# Altium footprint library RJ12_Femelle_FCI.PcbLib: 1 footprints
Each footprint in its own frame and in the unit in brackets; x right, y up, seen from the top. Pads: shape width x height; smd on the part's side, far side on the other; paste and mask are expansions set on the pad; w line width, h text height; cw(c..) or ccw(c..) is an arc to the next point about the centre after c.
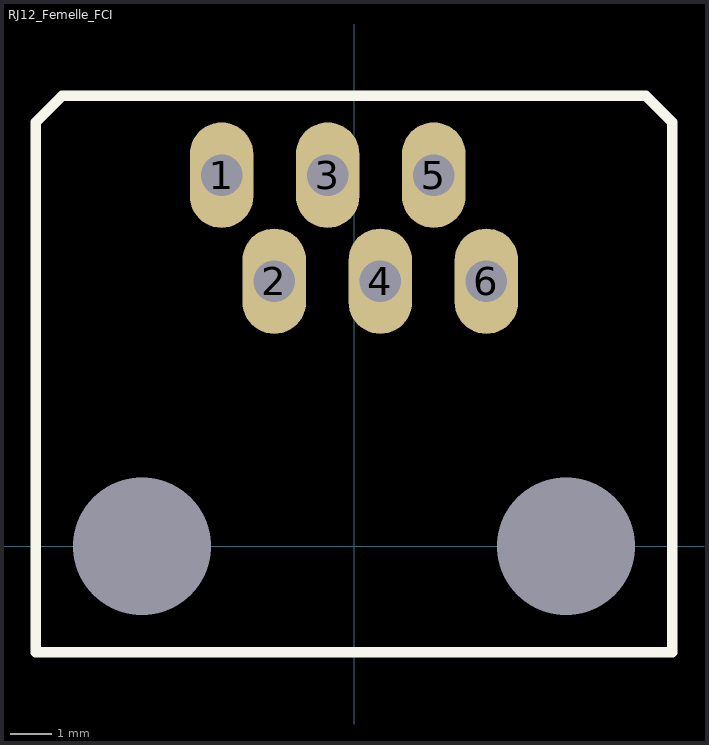
[diagram p0: the footprint, top view; thin cyan lines are the x and y axes]

## RJ12_Femelle_FCI [mm]
pads (8):
  oval 1.524x2.524 hole 1: 1(-3.17,8.89) 2(-1.91,6.35) 3(-0.63,8.89) 4(0.63,6.35) 5(1.91,8.89) 6(3.17,6.35)
  round 0 hole 3.3: ""(-5.08,0) ""(5.08,0)
Top Overlay:
  lines w0.254: -7.62,-2.54 -7.62,10.16 -6.985,10.795 4.445,10.795 6.985,10.795 7.62,10.16 7.62,-2.54 -7.62,-2.54